# Altium schematic symbol library TSOP38338 IR Sensor-Symbol-1.SchLib: 1 symbol
Pins are listed as number, name and electrical type; pins without a type are passive.

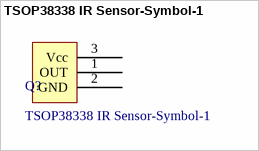
[diagram p0: symbol TSOP38338 IR Sensor-Symbol-1]

## TSOP38338 IR Sensor-Symbol-1
designator Q?
Remote Receiver Sensor 38.0kHz 45m Through Hole; Supplier 1: Digi-Key; Supplier Part Number 1: 751-1388-ND; Manufacturer Product Number: TSOP38338
pins: 1 OUT, 2 GND, 3 Vcc